# Altium footprint library MicroUSB_Boost.PcbLib: 1 footprints
Each footprint in its own frame and in the unit in brackets; x right, y up, seen from the top. Pads: shape width x height; smd on the part's side, far side on the other; paste and mask are expansions set on the pad; w line width, h text height; cw(c..) or ccw(c..) is an arc to the next point about the centre after c.
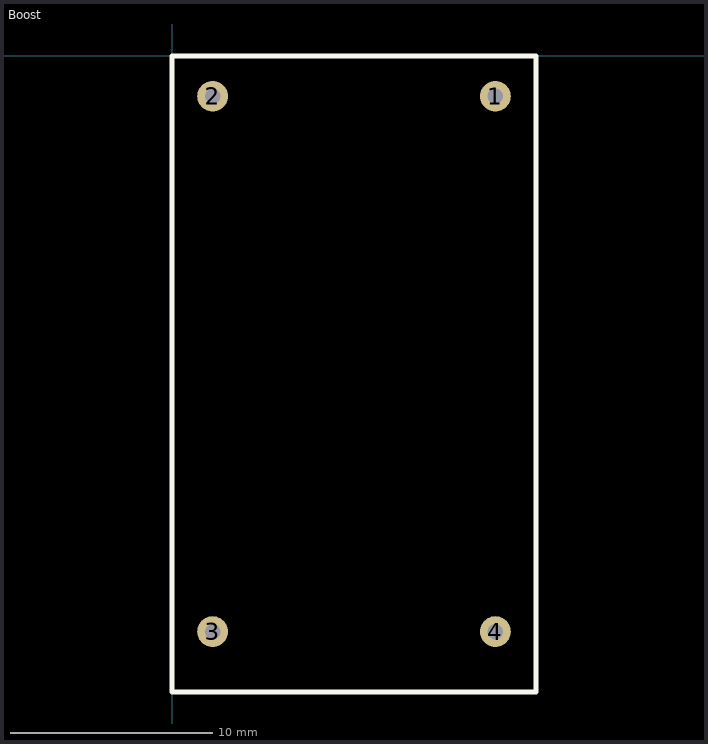
[diagram p0: the footprint, top view; thin cyan lines are the x and y axes]

## Boost [mil]
pads (4):
  round 60 hole 30: 1(629.92,-78.74) 2(78.74,-78.74) 3(78.74,-1122.05) 4(629.92,-1122.05)
Top Overlay:
  lines w10: 0,-1240.16 0,0 708.66,0 708.66,-1240.16 0,-1240.16